# EAGLE library part HC393 (library decoder)
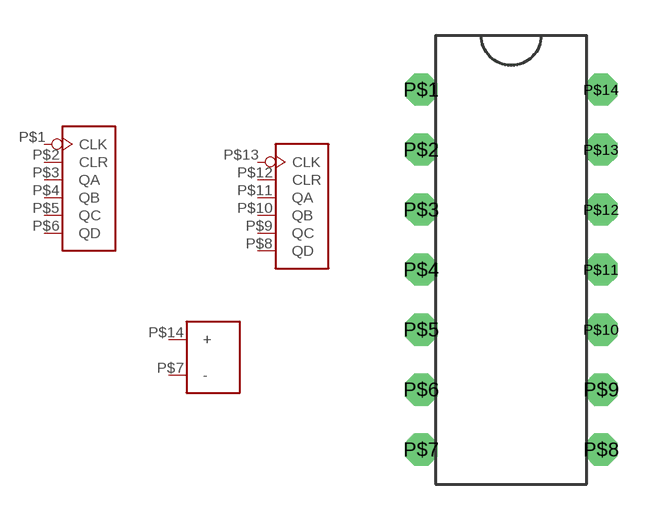
[diagram p1: symbol with the pads of DIP-14; footprint DIP-14]

Designator prefix -; gates D1=4BITDECODER D2=4BITDECODER G$3=POWER

## HC393  [DIP-14]
P$1  D1:CLK
P$2  D1:CLR
P$3  D1:QA
P$4  D1:QB
P$5  D1:QC
P$6  D1:QD
P$7  G$3:-  pwr
P$8  D2:QD
P$9  D2:QC
P$10  D2:QB
P$11  D2:QA
P$12  D2:CLR
P$13  D2:CLK
P$14  G$3:+  pwr

## Footprint DIP-14 (pad centres in mm)
drill 0.85 octagon: P$1 -3.81,0; P$2 -3.81,-2.54; P$3 -3.81,-5.08; P$4 -3.81,-7.62; P$5 -3.81,-10.16; P$6 -3.81,-12.7; P$7 -3.81,-15.24; P$8 3.81,-15.24; P$9 3.81,-12.7; P$10 3.81,-10.16; P$11 3.81,-7.62; P$12 3.81,-5.08; P$13 3.81,-2.54; P$14 3.81,0